# Altium footprint library switch-misc.PCBLIB: 30 footprints (part 2 of 2)
Each footprint in its own frame and in the unit in brackets; x right, y up, seen from the top. Pads: shape width x height; smd on the part's side, far side on the other; paste and mask are expansions set on the pad; w line width, h text height; cw(c..) or ccw(c..) is an arc to the next point about the centre after c.
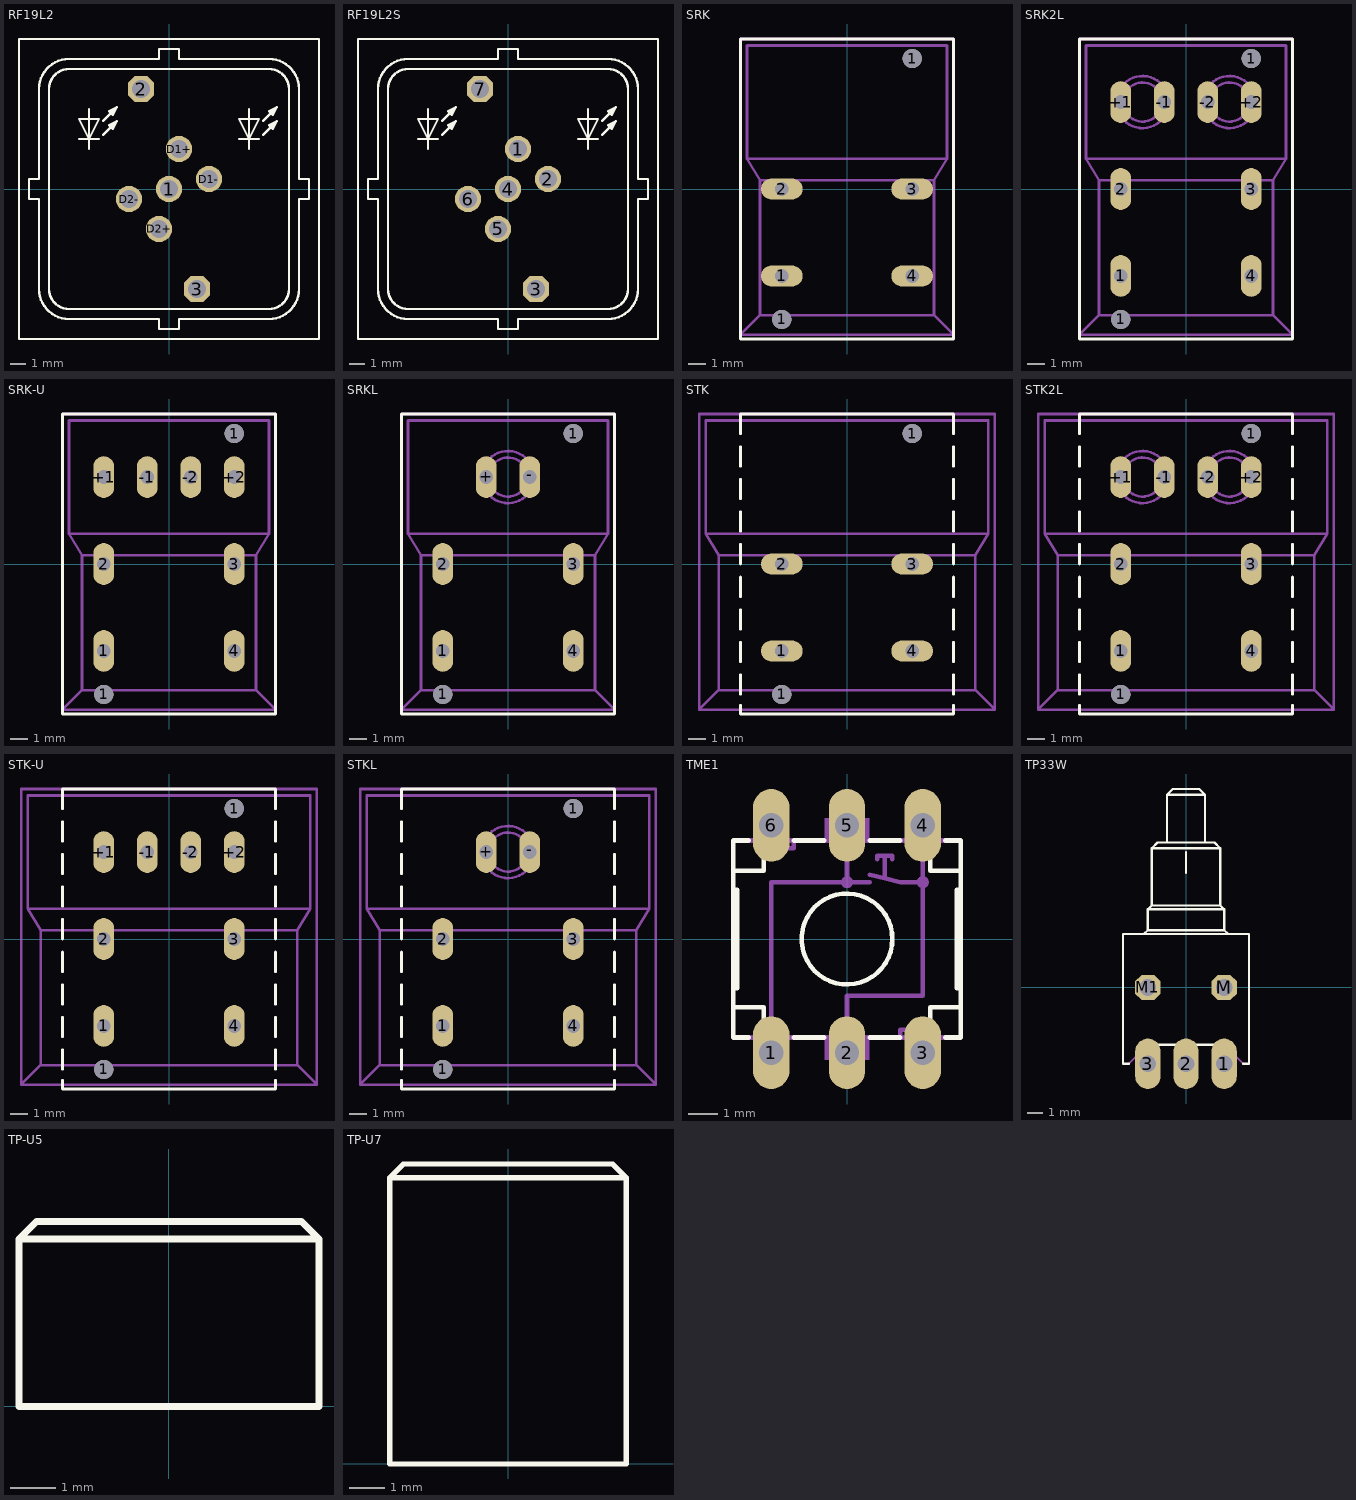
[diagram p1: the footprints below, top view; thin cyan lines are the x and y axes]

## RF19L2 [mil]
pads (7):
  round 66 hole 44: 1(0,0) D1+(25,100) D1-(100,25) D2+(-25,-100) D2-(-100,-25)
  oct 66x66 hole 44: 2(-70,250) 3(70,-250)
Top Overlay:
  lines w6: -225,125 -200,125 ; -200,100 -200,125 ; -200,200 -200,125 ; -175,125 -200,125 ; -165,135 -130,170 ; -165,170 -130,205 ; 175,125 200,125 ; 200,100 200,125 ; 200,200 200,125 ; 225,125 200,125 ; 235,135 270,170 ; 235,170 270,205 ; -200,125 -225,175 -175,175 -200,125 ; -130,170 -150,160 -140,150 -130,170 ; -130,205 -150,195 -140,185 -130,205 ; 200,125 175,175 225,175 200,125 ; 270,170 250,160 260,150 270,170 ; 270,205 250,195 260,185 270,205 ; -375,-375 375,-375 375,375 -375,375 -375,-375 ; -350,-25 -350,25 -325,25 -325,250 cw(c-250,250) -250,325 -25,325 -25,350 25,350 25,325 250,325 cw(c250,250) 325,250 325,25 350,25 350,-25 325,-25 325,-250 cw(c250,-250) 250,-325 25,-325 25,-350 -25,-350 -25,-325 -250,-325 cw(c-250,-250) -325,-250 -325,-25 -350,-25 ; -300,-250 -300,250 cw(c-250,250) -250,300 250,300 cw(c250,250) 300,250 300,-250 cw(c250,-250) 250,-300 -250,-300 cw(c-250,-250) -300,-250

## RF19L2S [mil]
pads (7):
  round 66 hole 44: 1(25,100) 2(100,25) 4(0,0) 5(-25,-100) 6(-100,-25)
  oct 66x66 hole 44: 3(70,-250) 7(-70,250)
Top Overlay:
  lines w6: -225,125 -200,125 ; -200,100 -200,125 ; -200,200 -200,125 ; -175,125 -200,125 ; -165,135 -130,170 ; -165,170 -130,205 ; 175,125 200,125 ; 200,100 200,125 ; 200,200 200,125 ; 225,125 200,125 ; 235,135 270,170 ; 235,170 270,205 ; -200,125 -225,175 -175,175 -200,125 ; -130,170 -150,160 -140,150 -130,170 ; -130,205 -150,195 -140,185 -130,205 ; 200,125 175,175 225,175 200,125 ; 270,170 250,160 260,150 270,170 ; 270,205 250,195 260,185 270,205 ; -375,-375 375,-375 375,375 -375,375 -375,-375 ; -350,-25 -350,25 -325,25 -325,250 cw(c-250,250) -250,325 -25,325 -25,350 25,350 25,325 250,325 cw(c250,250) 325,250 325,25 350,25 350,-25 325,-25 325,-250 cw(c250,-250) 250,-325 25,-325 25,-350 -25,-350 -25,-325 -250,-325 cw(c-250,-250) -325,-250 -325,-25 -350,-25 ; -300,-250 -300,250 cw(c-250,250) -250,300 250,300 cw(c250,250) 300,250 300,-250 cw(c250,-250) 250,-300 -250,-300 cw(c-250,-250) -300,-250

## SRK [mil]
pads (6):
  round 44 hole 44: 1(-150,-300) 1(150,300)
  oval 96x48 hole 32: 1(-150,-200) 2(-150,0) 3(150,0) 4(150,-200)
Top Overlay:
  lines w6: -245,-345 245,-345 245,345 -245,345 -245,-345
Mechanical 16:
  lines w6: -245,-335 245,-335 ; -245,-335 -245,345 245,345 245,-335 ; -245,-335 -200,-290 ; -230,70 230,70 ; -230,70 -230,330 230,330 230,70 ; -230,70 -200,20 ; -200,-290 200,-290 ; -200,-290 -200,20 ; -200,20 200,20 ; 200,-290 200,20 ; 200,-290 245,-335 ; 200,20 230,70

## SRK2L [mil]
pads (10):
  round 44 hole 44: 1(-150,-300) 1(150,300)
  oval 48x96 hole 32: 1(-150,-200) 2(-150,0) 3(150,0) 4(150,-200) +1(-150,200) +2(150,200) -1(-50,200) -2(50,200)
Top Overlay:
  lines w6: -245,-345 245,-345 245,345 -245,345 -245,-345
Mechanical 16:
  circle w6: c-100,200 r60
  circle w6: c-100,200 r45
  circle w6: c100,200 r45
  circle w6: c100,200 r60
  lines w6: -245,-335 245,-335 ; -245,-335 -245,345 245,345 245,-335 ; -245,-335 -200,-290 ; -230,70 230,70 ; -230,70 -230,330 230,330 230,70 ; -230,70 -200,20 ; -200,-290 200,-290 ; -200,-290 -200,20 ; -200,20 200,20 ; 200,-290 200,20 ; 200,-290 245,-335 ; 200,20 230,70

## SRK-U [mil]
pads (10):
  round 44 hole 44: 1(-150,-300) 1(150,300)
  oval 48x96 hole 32: 1(-150,-200) 2(-150,0) 3(150,0) 4(150,-200) +1(-150,200) +2(150,200) -1(-50,200) -2(50,200)
Top Overlay:
  lines w6: -245,-345 245,-345 245,345 -245,345 -245,-345
Mechanical 16:
  lines w6: -245,-335 245,-335 ; -245,-335 -245,345 245,345 245,-335 ; -245,-335 -200,-290 ; -230,70 230,70 ; -230,70 -230,330 230,330 230,70 ; -230,70 -200,20 ; -200,-290 200,-290 ; -200,-290 -200,20 ; -200,20 200,20 ; 200,-290 200,20 ; 200,-290 245,-335 ; 200,20 230,70

## SRKL [mil]
pads (8):
  round 44 hole 44: 1(-150,-300) 1(150,300)
  oval 48x96 hole 32: 1(-150,-200) 2(-150,0) 3(150,0) 4(150,-200) +(-50,200) -(50,200)
Top Overlay:
  lines w6: -245,-345 245,-345 245,345 -245,345 -245,-345
Mechanical 16:
  circle w6: c0,200 r45
  circle w6: c0,200 r60
  lines w6: -245,-335 245,-335 ; -245,-335 -245,345 245,345 245,-335 ; -245,-335 -200,-290 ; -230,70 230,70 ; -230,70 -230,330 230,330 230,70 ; -230,70 -200,20 ; -200,-290 200,-290 ; -200,-290 -200,20 ; -200,20 200,20 ; 200,-290 200,20 ; 200,-290 245,-335 ; 200,20 230,70

## STK [mil]
pads (6):
  round 44 hole 44: 1(-150,-300) 1(150,300)
  oval 96x48 hole 32: 1(-150,-200) 2(-150,0) 3(150,0) 4(150,-200)
Top Overlay:
  lines w6: -245,-325 -245,-345 245,-345 245,-325 ; -245,-300 -245,-255 ; -245,-225 -245,-180 ; -245,-150 -245,-105 ; -245,-75 -245,-30 ; -245,0 -245,45 ; -245,75 -245,120 ; -245,150 -245,195 ; -245,225 -245,270 ; -245,300 -245,345 245,345 245,300 ; 245,-300 245,-255 ; 245,-225 245,-180 ; 245,-150 245,-105 ; 245,-75 245,-30 ; 245,0 245,45 ; 245,75 245,120 ; 245,150 245,195 ; 245,225 245,270
Mechanical 16:
  lines w6: -340,-335 340,-335 ; -340,-335 -340,345 340,345 340,-335 ; -340,-335 -295,-290 ; -325,70 325,70 ; -325,70 -325,330 325,330 325,70 ; -325,70 -295,20 ; -295,-290 295,-290 ; -295,-290 -295,20 ; -295,20 295,20 ; 295,-290 295,20 ; 295,-290 340,-335 ; 295,20 325,70

## STK2L [mil]
pads (10):
  round 44 hole 44: 1(-150,-300) 1(150,300)
  oval 48x96 hole 32: 1(-150,-200) 2(-150,0) 3(150,0) 4(150,-200) +1(-150,200) +2(150,200) -1(-50,200) -2(50,200)
Top Overlay:
  lines w6: -245,-325 -245,-345 245,-345 245,-325 ; -245,-300 -245,-255 ; -245,-225 -245,-180 ; -245,-150 -245,-105 ; -245,-75 -245,-30 ; -245,0 -245,45 ; -245,75 -245,120 ; -245,150 -245,195 ; -245,225 -245,270 ; -245,300 -245,345 245,345 245,300 ; 245,-300 245,-255 ; 245,-225 245,-180 ; 245,-150 245,-105 ; 245,-75 245,-30 ; 245,0 245,45 ; 245,75 245,120 ; 245,150 245,195 ; 245,225 245,270
Mechanical 16:
  circle w6: c100,200 r45
  circle w6: c100,200 r60
  circle w6: c-100,200 r45
  circle w6: c-100,200 r60
  lines w6: -340,-335 340,-335 ; -340,-335 -340,345 340,345 340,-335 ; -340,-335 -295,-290 ; -325,70 325,70 ; -325,70 -325,330 325,330 325,70 ; -325,70 -295,20 ; -295,-290 295,-290 ; -295,-290 -295,20 ; -295,20 295,20 ; 295,-290 295,20 ; 295,-290 340,-335 ; 295,20 325,70

## STK-U [mil]
pads (10):
  round 44 hole 44: 1(-150,-300) 1(150,300)
  oval 48x96 hole 32: 1(-150,-200) 2(-150,0) 3(150,0) 4(150,-200) +1(-150,200) +2(150,200) -1(-50,200) -2(50,200)
Top Overlay:
  lines w6: -245,-325 -245,-345 245,-345 245,-325 ; -245,-300 -245,-255 ; -245,-225 -245,-180 ; -245,-150 -245,-105 ; -245,-75 -245,-30 ; -245,0 -245,45 ; -245,75 -245,120 ; -245,150 -245,195 ; -245,225 -245,270 ; -245,300 -245,345 245,345 245,300 ; 245,-300 245,-255 ; 245,-225 245,-180 ; 245,-150 245,-105 ; 245,-75 245,-30 ; 245,0 245,45 ; 245,75 245,120 ; 245,150 245,195 ; 245,225 245,270
Mechanical 16:
  lines w6: -340,-335 340,-335 ; -340,-335 -340,345 340,345 340,-335 ; -340,-335 -295,-290 ; -325,70 325,70 ; -325,70 -325,330 325,330 325,70 ; -325,70 -295,20 ; -295,-290 295,-290 ; -295,-290 -295,20 ; -295,20 295,20 ; 295,-290 295,20 ; 295,-290 340,-335 ; 295,20 325,70

## STKL [mil]
pads (8):
  round 44 hole 44: 1(-150,-300) 1(150,300)
  oval 48x96 hole 32: 1(-150,-200) 2(-150,0) 3(150,0) 4(150,-200) +(-50,200) -(50,200)
Top Overlay:
  lines w6: -245,-325 -245,-345 245,-345 245,-325 ; -245,-300 -245,-255 ; -245,-225 -245,-180 ; -245,-150 -245,-105 ; -245,-75 -245,-30 ; -245,0 -245,45 ; -245,75 -245,120 ; -245,150 -245,195 ; -245,225 -245,270 ; -245,300 -245,345 245,345 245,300 ; 245,-300 245,-255 ; 245,-225 245,-180 ; 245,-150 245,-105 ; 245,-75 245,-30 ; 245,0 245,45 ; 245,75 245,120 ; 245,150 245,195 ; 245,225 245,270
Mechanical 16:
  circle w6: c0,200 r45
  circle w6: c0,200 r60
  lines w6: -340,-335 340,-335 ; -340,-335 -340,345 340,345 340,-335 ; -340,-335 -295,-290 ; -325,70 325,70 ; -325,70 -325,330 325,330 325,70 ; -325,70 -295,20 ; -295,-290 295,-290 ; -295,-290 -295,20 ; -295,20 295,20 ; 295,-290 295,20 ; 295,-290 340,-335 ; 295,20 325,70

## TME1 [mil]
pads (6):
  oval 48x96 hole 32: 1(-100,-150) 2(0,-150) 3(100,-150) 4(100,150) 5(0,150) 6(-100,150)
Top Overlay:
  circle w6: c0,0 r60
  lines w6: -130,-130 -150,-130 -150,-90 ; -130,130 -150,130 -150,90 ; -110,-115 -110,-90 -150,-90 ; -110,115 -110,90 -150,90 ; -70,-130 -30,-130 ; -70,130 -30,130 ; 30,-130 70,-130 ; 30,130 70,130 ; 110,-115 110,-90 150,-90 ; 110,115 110,90 150,90 ; 130,-130 150,-130 150,-90 ; 130,130 150,130 150,90 ; -150,-90 -150,-65 ; -150,-65 -150,65 ; -150,-65 -145,-65 -145,65 -150,65 ; -150,65 -150,90 ; 150,-90 150,-65 ; 150,-65 145,-65 145,65 150,65 ; 150,-65 150,65 ; 150,65 150,90
Mechanical 16:
  circle w6: c100,75 r5
  circle w6: c0,75 r5
  rectangle: 90,-160 110,-130
  rectangle: -110,130 -90,160
  rectangle: -120,-160 -80,-130
  rectangle: 80,130 120,160
  rectangle: -30,130 30,160
  rectangle: -30,-160 30,-130
  lines w6: -130,-130 -110,-130 ; -130,130 -110,130 ; -110,-115 -110,-130 ; -110,115 -110,130 ; -100,-115 -100,75 0,75 ; -70,-130 -110,-130 ; -30,-130 30,-130 ; -30,130 30,130 ; 0,-115 0,-75 100,-75 100,75 ; 0,115 0,75 ; 30,75 0,75 ; 30,85 50,80 ; 40,105 40,110 50,110 ; 60,105 60,110 50,110 ; 70,130 110,130 ; 100,115 100,75 ; 110,-115 110,-130 ; 110,115 110,130 ; 130,-130 110,-130 ; 130,130 110,130 ; -110,130 -80,130 ; -80,130 -80,120 -70,120 -70,130 -80,130 ; 50,80 70,75 100,75 ; 50,80 50,110 ; 80,-130 70,-130 70,-120 80,-120 80,-130 ; 80,-130 110,-130

## TP33W [mil]
pads (5):
  oval 66x132 hole 44: 1(100,-200) 2(0,-200) 3(-100,-200)
  oct 66x66 hole 44: M(100,0) M1(-100,0)
Top Overlay:
  lines w6: -150,-200 -165,-200 -165,140 -110,140 ; -100,-150 -80,-150 ; -80,-160 -80,-150 ; -20,-160 -20,-150 ; 0,300 0,355 ; 20,-160 20,-150 ; 80,-160 80,-150 ; 100,-150 80,-150 ; 150,-200 165,-200 165,140 110,140 ; -110,140 110,140 ; -110,140 -100,150 ; -100,150 -100,205 ; -100,150 100,150 ; -100,205 -90,215 ; -100,205 100,205 ; -90,215 -90,365 ; -90,215 90,215 ; -90,365 -75,380 -50,380 ; -90,365 90,365 ; -80,-150 -20,-150 ; -50,380 -50,505 ; -50,380 50,380 ; -50,505 50,505 ; -50,505 -35,520 35,520 50,505 ; -20,-150 20,-150 ; 20,-150 80,-150 ; 50,380 50,505 ; 50,380 75,380 90,365 ; 90,215 90,365 ; 90,215 100,205 ; 100,150 100,205 ; 100,150 110,140
Mechanical 16:
  lines w6: -150,-200 -120,-170 ; -100,-150 -120,-170 ; -80,-160 -80,-205 -120,-205 -120,-170 ; -20,-160 -20,-205 20,-205 20,-160 ; 80,-160 80,-205 120,-205 120,-170 ; 100,-150 120,-170 ; 150,-200 120,-170

## TP-U5 [mil]
Top Overlay:
  lines w6: -130,145 -115,160 115,160 130,145 ; -130,145 -130,0 130,0 130,145 ; -130,145 130,145

## TP-U7 [mil]
Top Overlay:
  lines w6: -130,315 -115,330 115,330 130,315 ; -130,315 -130,0 130,0 130,315 ; -130,315 130,315